# EAGLE library part DRV8231A (library Bits_library_eagle 9x)
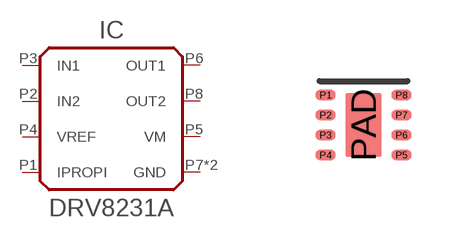
[diagram p73: symbol with the pads of WSON-8; footprint WSON-8]

Designator prefix IC

## DRV8231ADSGR  [WSON-8]
P1  IPROPI  pwr
P2  IN2
P3  IN1
P4  VREF  pwr
P5  VM  pwr
P6  OUT1
P7  GND  pwr
P8  OUT2
PAD  GND  pwr

## Footprint WSON-8 (pad centres in mm)
smd 0.5 x 0.25: P1 -0.95,0.75; P2 -0.95,0.25; P3 -0.95,-0.25; P4 -0.95,-0.75; P5 0.95,-0.75; P6 0.95,-0.25; P7 0.95,0.25; P8 0.95,0.75
smd 0.9 x 1.6: PAD 0,0